# EAGLE library part MAX5259 (library ICs)
3V, Low-Power, 8-Bit Octal DAC with Rail-to-Rail Output Buffers
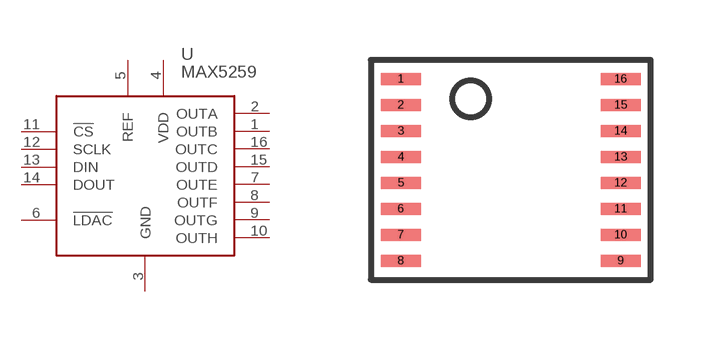
[diagram p209: symbol with the pads of SSOP16-4MM; footprint SSOP16-4MM]

Designator prefix U

## MAX5259 (DIGIKEY: MAX5259EEE+-ND; HEIGHT: 1.6; PRICE_PER: 2.21; VALUE: MAX5259)  [SSOP16-4MM]
1  OUTB
2  OUTA
3  GND
4  VDD
5  REF
6  !LDAC
7  OUTE
8  OUTF
9  OUTG
10  OUTH
11  !CS
12  SCLK
13  DIN
14  DOUT
15  OUTD
16  OUTC

## Footprint SSOP16-4MM (pad centres in mm)
smd 1 x 0.3: 1 -2.75,2.275; 2 -2.75,1.625; 3 -2.75,0.975; 4 -2.75,0.325; 5 -2.75,-0.325; 6 -2.75,-0.975; 7 -2.75,-1.625; 8 -2.75,-2.275; 9 2.75,-2.275; 10 2.75,-1.625; 11 2.75,-0.975; 12 2.75,-0.325; 13 2.75,0.325; 14 2.75,0.975; 15 2.75,1.625; 16 2.75,2.275